# Altium integrated library Texas Instruments Interface USB.IntLib: 91 symbols (part 6 of 12)
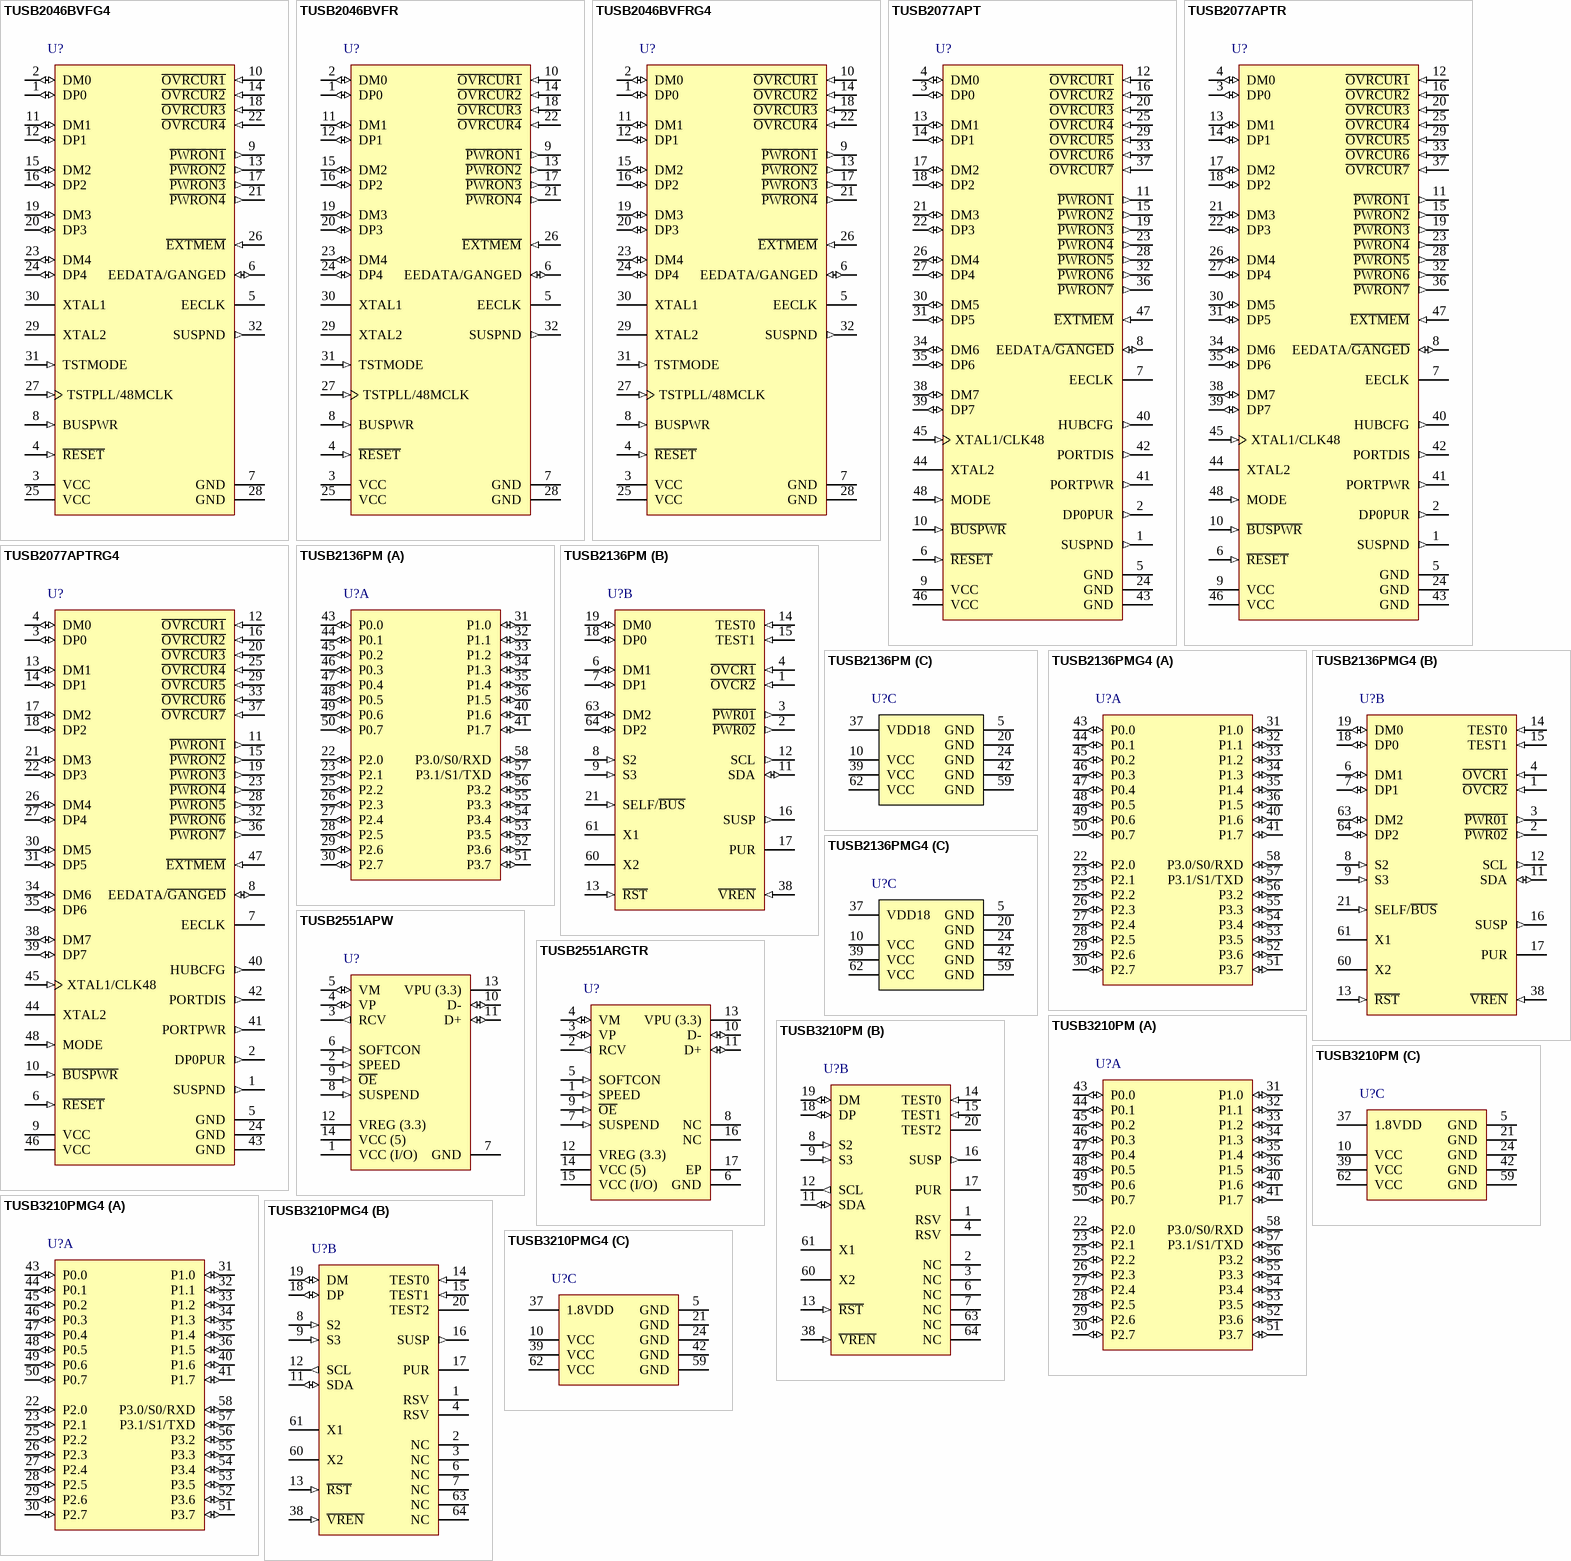
[diagram p13: symbols TUSB2046BVFG4 to TUSB3210PMG4]

## TUSB2077APTRG4
designator U?
7-Port USB Hub with Optional Serial EEPROM Interface, 3.3V, 0 to 70 degC, 48-Pin LQFP (PT), Green (RoHS & no Sb/Br); PartNumber: TUSB2077APTRG4; Manufacturer: Texas Instruments; SubFamily: USB Hub Controller; USB Speed: Full; USB Full Speed: True; Supply Voltage(s)(V): 3.3; DatasheetVersion: SLLS414D; PackageVersion: revC, Nov-1996; PackageReference: PT48; PackageDescription: 48-Pin Plastic Quad Flat Pack, 7 x 7 mm Body, 0.5 mm Pitch; Mounting Technology: Surface Mount; Eco-Plan: Green (RoHS & no Sb/Br); Integrated MCU Architecture: N/A; Code_JEDEC: MS-026; ComponentLink1Description: Datasheet; ComponentLink1URL: http://www.ti.com/general/docs/lit/getliterature.tsp?genericPartNumber=TUSB2077A&fileType=pdf; ComponentLink2Description: Package Specification; ComponentLink2URL: http://www.ti.com/litv/pdf/mtqf003a
footprint PT48_N (Thin QFP, 48-Leads, Body 7x7mm, Pitch 0.5mm, IPC Medium Density)
footprint PT48_L (Thin QFP, 48-Leads, Body 7x7mm, Pitch 0.5mm, IPC High Density)
footprint PT48_M (Thin QFP, 48-Leads, Body 7x7mm, Pitch 0.5mm, IPC Low Density)
pins: 1 SUSPND (out) "Suspend status. SUSPND is an active high output available for external logic power-down operations. During the suspend mode, SUSPND is high. SUSPND is low for normal operation.", 2 DP0PUR (out) "Pullup resistor connection. When a system reset happens (R\E\S\E\T\ being driven to low, but not USB reset) or any logic level change on B\U\S\P\W\R\ terminal, DP0PUR output is inactive (floating) until the internal counter (See Datasheet)", 3 DP0 (io) "Root port USB differential data plus. DP0 paired with DM0 constitutes the upstream USB port.", 4 DM0 (io) "Root port USB differential data minus. DM0 paired with DP0 constitutes the upstream USB port", 5 GND (power) "GND terminals must be tied to ground for proper operation.", 6 ~{RESET} (in) "R\E\S\E\T\ is an active low TTL input with hysteresis and must be asserted at power up. When R\E\S\E\T\ is asserted, all logic is initialized. Generally, a reset with a pulse width between 100 \E\S\E\T\ is an active low TTL (See Datasheet)", 7 EECLK (hiz) "EEPROM serial clock. When E\X\T\M\E\M\ is high, the EEPROM interface is disabled. The EECLK terminal is disabled and must be left floating (unconnected). When E\X\T\M\E\M\ is low, EECLK acts as a 3-state serial clock output (See Datasheet)", 8 EEDATA/~{GANGED} (io) "EEPROM serial data/power-management mode indicator. When E\X\T\M\E\M\ is high, EEDATA/GANGED selects between ganged or per-port power overcurrent detection for the downstream ports. When E\X\T\M\E\M\ is low, (See Datasheet)", 9 VCC (power) "3.3-V supply voltage", 10 ~{BUSPWR} (in) "Power source indicator. B\U\S\P\W\R\ is an active-low input that indicates whether the downstream ports source their power from the USB cable or a local power supply. For the bus-power mode, this terminal must be pulled low, (See Datasheet)", 11 ~{PWRON1} (out) "Power-on/-off control signals. P\W\R\O\N\1\-P\W\R\O\N\7\ are active low, push-pull outputs that enables the external power switch device. Push-pull outputs eliminate the pullup resistors which open-drain outputs require. (See Datasheet)", 12 ~{OVRCUR1} (in) "Overcurrent input. O\V\R\C\U\R\1\-O\V\R\C\U\R\7\ are active low. For per-port overcurrent detection, one overcurrent input is available for each of the seven downstream ports. In the ganged mode, any O\V\R\C\U\R\ input may (See Datasheet)", 13 DM1 (io) "USB differential data minus. DM1-DM7 paired with DP1-DP7 support up to four downstream USB ports.", 14 DP1 (io) "USB differential data plus. DP1-DP7 paired with DM1-DM7 support up to four downstream USB ports.", 15 ~{PWRON2} (out) "Power-on/-off control signals. P\W\R\O\N\1\-P\W\R\O\N\7\ are active low, push-pull outputs that enables the external power switch device. Push-pull outputs eliminate the pullup resistors which open-drain outputs require. (See Datasheet)", 16 ~{OVRCUR2} (in) "Overcurrent input. O\V\R\C\U\R\1\-O\V\R\C\U\R\7\ are active low. For per-port overcurrent detection, one overcurrent input is available for each of the seven downstream ports. In the ganged mode, any O\V\R\C\U\R\ input may (See Datasheet)", 17 DM2 (io) "USB differential data minus. DM1-DM7 paired with DP1-DP7 support up to four downstream USB ports.", 18 DP2 (io) "USB differential data plus. DP1-DP7 paired with DM1-DM7 support up to four downstream USB ports.", 19 ~{PWRON3} (out) "Power-on/-off control signals. P\W\R\O\N\1\-P\W\R\O\N\7\ are active low, push-pull outputs that enables the external power switch device. Push-pull outputs eliminate the pullup resistors which open-drain outputs require. (See Datasheet)", 20 ~{OVRCUR3} (in) "Overcurrent input. O\V\R\C\U\R\1\-O\V\R\C\U\R\7\ are active low. For per-port overcurrent detection, one overcurrent input is available for each of the seven downstream ports. In the ganged mode, any O\V\R\C\U\R\ input may (See Datasheet)", 21 DM3 (io) "USB differential data minus. DM1-DM7 paired with DP1-DP7 support up to four downstream USB ports.", 22 DP3 (io) "USB differential data plus. DP1-DP7 paired with DM1-DM7 support up to four downstream USB ports.", 23 ~{PWRON4} (out) "Power-on/-off control signals. P\W\R\O\N\1\-P\W\R\O\N\7\ are active low, push-pull outputs that enables the external power switch device. Push-pull outputs eliminate the pullup resistors which open-drain outputs require. (See Datasheet)", 24 GND (power) "GND terminals must be tied to ground for proper operation.", 25 ~{OVRCUR4} (in) "Overcurrent input. O\V\R\C\U\R\1\-O\V\R\C\U\R\7\ are active low. For per-port overcurrent detection, one overcurrent input is available for each of the seven downstream ports. In the ganged mode, any O\V\R\C\U\R\ input may (See Datasheet)", 26 DM4 (io) "USB differential data minus. DM1-DM7 paired with DP1-DP7 support up to four downstream USB ports.", 27 DP4 (io) "USB differential data plus. DP1-DP7 paired with DM1-DM7 support up to four downstream USB ports.", 28 ~{PWRON5} (out) "Power-on/-off control signals. P\W\R\O\N\1\-P\W\R\O\N\7\ are active low, push-pull outputs that enables the external power switch device. Push-pull outputs eliminate the pullup resistors which open-drain outputs require. (See Datasheet)", 29 ~{OVRCUR5} (in) "Overcurrent input. O\V\R\C\U\R\1\-O\V\R\C\U\R\7\ are active low. For per-port overcurrent detection, one overcurrent input is available for each of the seven downstream ports. In the ganged mode, any O\V\R\C\U\R\ input may (See Datasheet)", 30 DM5 (io) "USB differential data minus. DM1-DM7 paired with DP1-DP7 support up to four downstream USB ports.", 31 DP5 (io) "USB differential data plus. DP1-DP7 paired with DM1-DM7 support up to four downstream USB ports.", 32 ~{PWRON6} (out) "Power-on/-off control signals. P\W\R\O\N\1\-P\W\R\O\N\7\ are active low, push-pull outputs that enables the external power switch device. Push-pull outputs eliminate the pullup resistors which open-drain outputs require. (See Datasheet)", 33 ~{OVRCUR6} (in) "Overcurrent input. O\V\R\C\U\R\1\-O\V\R\C\U\R\7\ are active low. For per-port overcurrent detection, one overcurrent input is available for each of the seven downstream ports. In the ganged mode, any O\V\R\C\U\R\ input may (See Datasheet)", 34 DM6 (io) "USB differential data minus. DM1-DM7 paired with DP1-DP7 support up to four downstream USB ports.", 35 DP6 (io) "USB differential data plus. DP1-DP7 paired with DM1-DM7 support up to four downstream USB ports.", 36 ~{PWRON7} (out) "Power-on/-off control signals. P\W\R\O\N\1\-P\W\R\O\N\7\ are active low, push-pull outputs that enables the external power switch device. Push-pull outputs eliminate the pullup resistors which open-drain outputs require. (See Datasheet)", 37 ~{OVRCUR7} (in) "Overcurrent input. O\V\R\C\U\R\1\-O\V\R\C\U\R\7\ are active low. For per-port overcurrent detection, one overcurrent input is available for each of the seven downstream ports. In the ganged mode, any O\V\R\C\U\R\ input may (See Datasheet)", 38 DM7 (io) "USB differential data minus. DM1-DM7 paired with DP1-DP7 support up to four downstream USB ports.", 39 DP7 (io) "USB differential data plus. DP1-DP7 paired with DM1-DM7 support up to four downstream USB ports.", 40 HUBCFG (out) "Hub configured. Used to control LED indicator. When the hub is configured, HUBCFG is high, which can be used to turn on a green LED. When the hub is not configured, HUBCFG is low, which can be used to turn on a red LED.", 41 PORTPWR (out) "Any port powered. Used to control LED indicator. When any port is powered on, PORTPWR is high, which can be used to turn on a green LED. When all ports are off, PORTPWR is low, which can be used to turn on a red LED.", 42 PORTDIS (out) "No ports disabled. PORTDIS is used for LED indicator control. When no port is disabled, PORTDIS is high, which can be used to turn on a green LED. When any port is disabled, PORTDIS is low, which can be used to turn on a red (See Datasheet)", 43 GND (power) "GND terminals must be tied to ground for proper operation.", 44 XTAL2 "Crystal 2. XTAL2 is a 6-MHz crystal output. This terminal must be left open when using an oscillator", 45 XTAL1/CLK48 (in) "Crystal 1/48-MHz clock input. When MODE is low, XTAL1/CLK48 is a 6-MHz crystal input with 50% duty cycle. An internal APLL generates the 48-MHz and 12-MHz clocks used internally by the ASIC logic. When MODE is high, (See Datasheet)", 46 VCC (power) "3.3-V supply voltage", 47 ~{EXTMEM} (in) "When E\X\T\M\E\M\ is high, the serial EEPROM interface of the device is disabled. When E\X\T\M\E\M\ is low, terminals 7 and 8 are configured as the clock and data terminals of the serial EEPROM interface, respectively.", 48 MODE (in) "Mode select. When MODE is low, the APLL output clock is selected as the clock source to drive the internal core of the chip and 6-MHz crystal or oscillator can used. When MODE is high, the clock on XTAL1/CLK48 is selected as (See Datasheet)"

## TUSB2136PM
designator U?
USB Compound Hub with General-Purpose 8052 MCU, 3.3V, 0 to 70 degC, 64-Pin LQFP (PM), Green (RoHS & no Sb/Br); PartNumber: TUSB2136PM; Manufacturer: Texas Instruments; SubFamily: USB Hub Controller; USB Speed: Full; USB Full Speed: True; Integrated MCU Architecture: 8052; Supply Voltage(s)(V): 3.3; DatasheetVersion: SLLS442E; PackageVersion: Dec-1996; PackageReference: PM64; PackageDescription: 64-Pin Thin Quad Flat Pack 0.5 mm Pitch; Mounting Technology: Surface Mount; Eco-Plan: Green (RoHS & no Sb/Br); Code_JEDEC: MS-026; ComponentLink1Description: Datasheet; ComponentLink1URL: http://www.ti.com/general/docs/lit/getliterature.tsp?genericPartNumber=TUSB2136&fileType=pdf; ComponentLink2Description: Package Specification; ComponentLink2URL: http://www.ti.com/lit/ml/mtqf008a/mtqf008a.pdf
footprint PM64_N (Thin QFP, 64-Leads, Body 10x10mm, Pitch 0.5mm, IPC Medium Density)
footprint PM64_L (Thin QFP, 64-Leads, Body 10x10mm, Pitch 0.5mm, IPC High Density)
footprint PM64_M (Thin QFP, 64-Leads, Body 10x10mm, Pitch 0.5mm, IPC Low Density)
part A pins: 22 P2.0 (io) "General-purpose I/O port 2 bits 0-7, Schmitt-trigger input, 100-uA active pullup, open-drain output", 23 P2.1 (io) "General-purpose I/O port 2 bits 0-7, Schmitt-trigger input, 100-uA active pullup, open-drain output", 25 P2.2 (io) "General-purpose I/O port 2 bits 0-7, Schmitt-trigger input, 100-uA active pullup, open-drain output", 26 P2.3 (io) "General-purpose I/O port 2 bits 0-7, Schmitt-trigger input, 100-uA active pullup, open-drain output", 27 P2.4 (io) "General-purpose I/O port 2 bits 0-7, Schmitt-trigger input, 100-uA active pullup, open-drain output", 28 P2.5 (io) "General-purpose I/O port 2 bits 0-7, Schmitt-trigger input, 100-uA active pullup, open-drain output", 29 P2.6 (io) "General-purpose I/O port 2 bits 0-7, Schmitt-trigger input, 100-uA active pullup, open-drain output", 30 P2.7 (io) "General-purpose I/O port 2 bits 0-7, Schmitt-trigger input, 100-uA active pullup, open-drain output", 31 P1.0 (io) "General-purpose I/O port 1 bits 0-7, Schmitt-trigger input, 100-uA active pullup, open-drain output", 32 P1.1 (io) "General-purpose I/O port 1 bits 0-7, Schmitt-trigger input, 100-uA active pullup, open-drain output", 33 P1.2 (io) "General-purpose I/O port 1 bits 0-7, Schmitt-trigger input, 100-uA active pullup, open-drain output", 34 P1.3 (io) "General-purpose I/O port 1 bits 0-7, Schmitt-trigger input, 100-uA active pullup, open-drain output", 35 P1.4 (io) "General-purpose I/O port 1 bits 0-7, Schmitt-trigger input, 100-uA active pullup, open-drain output", 36 P1.5 (io) "General-purpose I/O port 1 bits 0-7, Schmitt-trigger input, 100-uA active pullup, open-drain output", 40 P1.6 (io) "General-purpose I/O port 1 bits 0-7, Schmitt-trigger input, 100-uA active pullup, open-drain output", 41 P1.7 (io) "General-purpose I/O port 1 bits 0-7, Schmitt-trigger input, 100-uA active pullup, open-drain output", 43 P0.0 (io) "General-purpose I/O port 0 bits 0-7, Schmitt-trigger input, 100-uA active pullup, open-drain output", 44 P0.1 (io) "General-purpose I/O port 0 bits 0-7, Schmitt-trigger input, 100-uA active pullup, open-drain output", 45 P0.2 (io) "General-purpose I/O port 0 bits 0-7, Schmitt-trigger input, 100-uA active pullup, open-drain output", 46 P0.3 (io) "General-purpose I/O port 0 bits 0-7, Schmitt-trigger input, 100-uA active pullup, open-drain output", 47 P0.4 (io) "General-purpose I/O port 0 bits 0-7, Schmitt-trigger input, 100-uA active pullup, open-drain output", 48 P0.5 (io) "General-purpose I/O port 0 bits 0-7, Schmitt-trigger input, 100-uA active pullup, open-drain output", 49 P0.6 (io) "General-purpose I/O port 0 bits 0-7, Schmitt-trigger input, 100-uA active pullup, open-drain output", 50 P0.7 (io) "General-purpose I/O port 0 bits 0-7, Schmitt-trigger input, 100-uA active pullup, open-drain output", 51 P3.7 (io) "General-purpose I/O port 3 bit 4, Schmitt-trigger input, 100-uA active pullup, open-drain output", 52 P3.6 (io) "General-purpose I/O port 3 bit 4, Schmitt-trigger input, 100-uA active pullup, open-drain output", 53 P3.5 (io) "General-purpose I/O port 3 bit 4, Schmitt-trigger input, 100-uA active pullup, open-drain output", 54 P3.4 (io) "General-purpose I/O port 3 bit 4, Schmitt-trigger input, 100-uA active pullup, open-drain output", 55 P3.3 (io) "General-purpose I/O port 3 bit 3, Schmitt-trigger input, 100-uA active pullup, open-drain output may support I\N\T\1\  input, depending on configuration (see Figure 2-5).", 56 P3.2 (io) "General-purpose I/O port 3 bit 2, Schmitt-trigger input, 100-uA active pullup, open-drain output; I\N\T\0\ only used internally (see Section 2.9.4)", 57 P3.1/S1/TXD (io) "P3.1: General-purpose I/O port 3 bit 1, Schmitt-trigger input, 100-uA active pullup, open-drain output. S1: See Section 2.6.12  TXD: Can be used as a UART interface.", 58 P3.0/S0/RXD (io) "P3.0: General-purpose I/O port 3 bit 0, Schmitt-trigger input, 100-uA active pullup, open-drain output. S0: See Section 2.6.12. RXD: Can be used as a UART interface."
part B pins: 1 ~{OVCR2} (in) "Port 2: Overcorrect indicator; Schmitt-trigger input, 100-uA active pullup", 2 ~{PWR02} (out) "Port 2: power on/off control signal; push-pull CMOS output (+/-8 mA)", 3 ~{PWR01} (out) "Port 1: power on/off control signal; push-pull CMOS output (+/-8 mA)", 4 ~{OVCR1} (in) "Port 1: Overcorrect indicator; Schmitt-trigger input, 100-uA active pullup", 6 DM1 (io) "Differential data-minus port 1: downstream", 7 DP1 (io) "Differential data-plus port 1: downstream", 8 S2 (in) "General-purpose input; can be used for VID/PID selection under firmware control. This input has no internal pullup, so it must be driven/pulled either low or high and connot be left unconnected.", 9 S3 (in) "General-purpose input. This input has no internal pullup, so it must be driven/pulled either low or high and connot be left unconnected.", 11 SDA (io) "Serial data I2C; open-drain output", 12 SCL (out) "Serial clock I2C; push-pull output", 13 ~{RST} (in) "Controller master reset signal, Schmitt-trigger input, 100-uA active pullup", 14 TEST0 (in) "Test input 0, Schmitt-trigger input, 100-uA active pullup", 15 TEST1 (in) "Test input 1, Schmitt-trigger input, 100-uA active pullup", 16 SUSP (out) "Suspend status signal: suspended (HIGH); unsuspended (LOW)", 17 PUR (hiz) "Pullup resistor connection pin (3-state); push-pull CMOS output (+/-8 mA)", 18 DP0 (io) "Differential data-plus USB port 0: upstream", 19 DM0 (io) "Differential data-minus USB port 0: upstream", 21 SELF/~{BUS} (in) "USB power MODE select: self powered (HIGH), bus powered (LOW)", 38 ~{VREN} (in) "Voltage regulator enable: enable active LOW; disable active HIGH", 60 X2 "12-MHz crystal output", 61 X1 "12-MHz crystal input", 63 DM2 (io) "Differential data-minus port 2: downstream", 64 DP2 (io) "Differential data-plus port 2: downstream"
part C pins: 5 GND (power) "Power supply ground", 10 VCC (power) "Power supply input, 3.3 V typical", 20 GND (power) "Power supply ground", 24 GND (power) "Power supply ground", 37 VDD18 (power) "1.8 V. When V\R\E\N\ is low, 1.8 V must be applied to provide current for the core during suspend.", 39 VCC (power) "Power supply input, 3.3 V typical", 42 GND (power) "Power supply ground", 59 GND (power) "Power supply ground", 62 VCC (power) "Power supply input, 3.3 V typical"

## TUSB2136PMG4
designator U?
USB Compound Hub with General-Purpose 8052 MCU, 3.3V, 0 to 70 degC, 64-Pin LQFP (PM), Green (RoHS & no Sb/Br); PartNumber: TUSB2136PMG4; Manufacturer: Texas Instruments; SubFamily: USB Hub Controller; USB Speed: Full; USB Full Speed: True; Integrated MCU Architecture: 8052; Supply Voltage(s)(V): 3.3; DatasheetVersion: SLLS442E; PackageVersion: Dec-1996; PackageReference: PM64; PackageDescription: 64-Pin Thin Quad Flat Pack 0.5 mm Pitch; Mounting Technology: Surface Mount; Eco-Plan: Green (RoHS & no Sb/Br); Code_JEDEC: MS-026; ComponentLink1Description: Datasheet; ComponentLink1URL: http://www.ti.com/general/docs/lit/getliterature.tsp?genericPartNumber=TUSB2136&fileType=pdf; ComponentLink2Description: Package Specification; ComponentLink2URL: http://www.ti.com/lit/ml/mtqf008a/mtqf008a.pdf
footprint PM64_N (Thin QFP, 64-Leads, Body 10x10mm, Pitch 0.5mm, IPC Medium Density)
footprint PM64_L (Thin QFP, 64-Leads, Body 10x10mm, Pitch 0.5mm, IPC High Density)
footprint PM64_M (Thin QFP, 64-Leads, Body 10x10mm, Pitch 0.5mm, IPC Low Density)
part A pins: 22 P2.0 (io) "General-purpose I/O port 2 bits 0-7, Schmitt-trigger input, 100-uA active pullup, open-drain output", 23 P2.1 (io) "General-purpose I/O port 2 bits 0-7, Schmitt-trigger input, 100-uA active pullup, open-drain output", 25 P2.2 (io) "General-purpose I/O port 2 bits 0-7, Schmitt-trigger input, 100-uA active pullup, open-drain output", 26 P2.3 (io) "General-purpose I/O port 2 bits 0-7, Schmitt-trigger input, 100-uA active pullup, open-drain output", 27 P2.4 (io) "General-purpose I/O port 2 bits 0-7, Schmitt-trigger input, 100-uA active pullup, open-drain output", 28 P2.5 (io) "General-purpose I/O port 2 bits 0-7, Schmitt-trigger input, 100-uA active pullup, open-drain output", 29 P2.6 (io) "General-purpose I/O port 2 bits 0-7, Schmitt-trigger input, 100-uA active pullup, open-drain output", 30 P2.7 (io) "General-purpose I/O port 2 bits 0-7, Schmitt-trigger input, 100-uA active pullup, open-drain output", 31 P1.0 (io) "General-purpose I/O port 1 bits 0-7, Schmitt-trigger input, 100-uA active pullup, open-drain output", 32 P1.1 (io) "General-purpose I/O port 1 bits 0-7, Schmitt-trigger input, 100-uA active pullup, open-drain output", 33 P1.2 (io) "General-purpose I/O port 1 bits 0-7, Schmitt-trigger input, 100-uA active pullup, open-drain output", 34 P1.3 (io) "General-purpose I/O port 1 bits 0-7, Schmitt-trigger input, 100-uA active pullup, open-drain output", 35 P1.4 (io) "General-purpose I/O port 1 bits 0-7, Schmitt-trigger input, 100-uA active pullup, open-drain output", 36 P1.5 (io) "General-purpose I/O port 1 bits 0-7, Schmitt-trigger input, 100-uA active pullup, open-drain output", 40 P1.6 (io) "General-purpose I/O port 1 bits 0-7, Schmitt-trigger input, 100-uA active pullup, open-drain output", 41 P1.7 (io) "General-purpose I/O port 1 bits 0-7, Schmitt-trigger input, 100-uA active pullup, open-drain output", 43 P0.0 (io) "General-purpose I/O port 0 bits 0-7, Schmitt-trigger input, 100-uA active pullup, open-drain output", 44 P0.1 (io) "General-purpose I/O port 0 bits 0-7, Schmitt-trigger input, 100-uA active pullup, open-drain output", 45 P0.2 (io) "General-purpose I/O port 0 bits 0-7, Schmitt-trigger input, 100-uA active pullup, open-drain output", 46 P0.3 (io) "General-purpose I/O port 0 bits 0-7, Schmitt-trigger input, 100-uA active pullup, open-drain output", 47 P0.4 (io) "General-purpose I/O port 0 bits 0-7, Schmitt-trigger input, 100-uA active pullup, open-drain output", 48 P0.5 (io) "General-purpose I/O port 0 bits 0-7, Schmitt-trigger input, 100-uA active pullup, open-drain output", 49 P0.6 (io) "General-purpose I/O port 0 bits 0-7, Schmitt-trigger input, 100-uA active pullup, open-drain output", 50 P0.7 (io) "General-purpose I/O port 0 bits 0-7, Schmitt-trigger input, 100-uA active pullup, open-drain output", 51 P3.7 (io) "General-purpose I/O port 3 bit 4, Schmitt-trigger input, 100-uA active pullup, open-drain output", 52 P3.6 (io) "General-purpose I/O port 3 bit 4, Schmitt-trigger input, 100-uA active pullup, open-drain output", 53 P3.5 (io) "General-purpose I/O port 3 bit 4, Schmitt-trigger input, 100-uA active pullup, open-drain output", 54 P3.4 (io) "General-purpose I/O port 3 bit 4, Schmitt-trigger input, 100-uA active pullup, open-drain output", 55 P3.3 (io) "General-purpose I/O port 3 bit 3, Schmitt-trigger input, 100-uA active pullup, open-drain output may support I\N\T\1\  input, depending on configuration (see Figure 2-5).", 56 P3.2 (io) "General-purpose I/O port 3 bit 2, Schmitt-trigger input, 100-uA active pullup, open-drain output; I\N\T\0\ only used internally (see Section 2.9.4)", 57 P3.1/S1/TXD (io) "P3.1: General-purpose I/O port 3 bit 1, Schmitt-trigger input, 100-uA active pullup, open-drain output. S1: See Section 2.6.12  TXD: Can be used as a UART interface.", 58 P3.0/S0/RXD (io) "P3.0: General-purpose I/O port 3 bit 0, Schmitt-trigger input, 100-uA active pullup, open-drain output. S0: See Section 2.6.12. RXD: Can be used as a UART interface."
part B pins: 1 ~{OVCR2} (in) "Port 2: Overcorrect indicator; Schmitt-trigger input, 100-uA active pullup", 2 ~{PWR02} (out) "Port 2: power on/off control signal; push-pull CMOS output (+/-8 mA)", 3 ~{PWR01} (out) "Port 1: power on/off control signal; push-pull CMOS output (+/-8 mA)", 4 ~{OVCR1} (in) "Port 1: Overcorrect indicator; Schmitt-trigger input, 100-uA active pullup", 6 DM1 (io) "Differential data-minus port 1: downstream", 7 DP1 (io) "Differential data-plus port 1: downstream", 8 S2 (in) "General-purpose input; can be used for VID/PID selection under firmware control. This input has no internal pullup, so it must be driven/pulled either low or high and connot be left unconnected.", 9 S3 (in) "General-purpose input. This input has no internal pullup, so it must be driven/pulled either low or high and connot be left unconnected.", 11 SDA (io) "Serial data I2C; open-drain output", 12 SCL (out) "Serial clock I2C; push-pull output", 13 ~{RST} (in) "Controller master reset signal, Schmitt-trigger input, 100-uA active pullup", 14 TEST0 (in) "Test input 0, Schmitt-trigger input, 100-uA active pullup", 15 TEST1 (in) "Test input 1, Schmitt-trigger input, 100-uA active pullup", 16 SUSP (out) "Suspend status signal: suspended (HIGH); unsuspended (LOW)", 17 PUR (hiz) "Pullup resistor connection pin (3-state); push-pull CMOS output (+/-8 mA)", 18 DP0 (io) "Differential data-plus USB port 0: upstream", 19 DM0 (io) "Differential data-minus USB port 0: upstream", 21 SELF/~{BUS} (in) "USB power MODE select: self powered (HIGH), bus powered (LOW)", 38 ~{VREN} (in) "Voltage regulator enable: enable active LOW; disable active HIGH", 60 X2 "12-MHz crystal output", 61 X1 "12-MHz crystal input", 63 DM2 (io) "Differential data-minus port 2: downstream", 64 DP2 (io) "Differential data-plus port 2: downstream"
part C pins: 5 GND (power) "Power supply ground", 10 VCC (power) "Power supply input, 3.3 V typical", 20 GND (power) "Power supply ground", 24 GND (power) "Power supply ground", 37 VDD18 (power) "1.8 V. When V\R\E\N\ is low, 1.8 V must be applied to provide current for the core during suspend.", 39 VCC (power) "Power supply input, 3.3 V typical", 42 GND (power) "Power supply ground", 59 GND (power) "Power supply ground", 62 VCC (power) "Power supply input, 3.3 V typical"

## TUSB2551APW
designator U?
Advanced USB Transceiver, Full Speed, Single, +/-15 KV, -40 to 85 degC, 14-Pin TSSOP (PW); PartNumber: TUSB2551APW; Manufacturer: Texas Instruments; DatasheetVersion: SCES790; PackageVersion: revG, Feb-2011; PackageReference: PW14; PackageDescription: 14-Pin Thin Small Outline Package 0.65 mm Pitch; Mounting Technology: Surface Mount; SubFamily: USB Transceiver; ESD HBM(kV): +/-15; USB Speed: Full; Code_JEDEC: MO-153; ComponentLink1Description: Datasheet; ComponentLink1URL: http://www.ti.com/general/docs/lit/getliterature.tsp?genericPartNumber=TUSB2551A&fileType=pdf; ComponentLink2Description: Package Specification; ComponentLink2URL: http://www.ti.com/lit/ml/mpds360/mpds360.pdf
footprint PW14_N (TSOP, 14-Leads, Body 5x4.4mm, Pitch 0.65mm, IPC Medium Density)
footprint PW14_L (TSOP, 14-Leads, Body 5x4.4mm, Pitch 0.65mm, IPC High Density)
footprint PW14_M (TSOP, 14-Leads, Body 5x4.4mm, Pitch 0.65mm, IPC Low Density)
pins: 1 VCC (I/O) (power) "System terface supply voltage. Used to provide reference supply voltage for system I/O interface signaling", 2 SPEED (in) "Speed.Edge-rate contrl:Alogic HIGH operates at edge rates for full-speed operation .A logic LOW operates at edge rates for low-speed operation", 3 RCV (out) "Receive data. Output for USB differential data", 4 VP (io) "if O\E\=1,VP=Receiver output(+);if O\E\=0,VP=Driver input(+)", 5 VM (io) "if O\E\=1,VM=Receiver output(-);if O\E\=0,VM=Driver input(-)", 6 SOFTCON (in) "Soft connect. Controls state of VPU(3.3). See VPU(3.3) pin description for details.", 7 GND (power) "Ground reference", 8 SUSPEND (in) "Suspend. Active high. Turns off internal circuits to reduce supply current.", 9 ~{OE} (in) "Output enable.Active low. Enables the transceiver to transmit data onto the bus. When inactive, the transceiver is in the receive mode.", 10 D- (io) "Differential data lines conforming to the USB standard", 11 D+ (io) "Differential data lines conforming to the USB standard", 12 VREG (3.3) (power) "3.3-V reference supply. Requires a minimum 0.1-uF decoupling capacitor for stability. A 1-uF capacitor is recommended.", 13 VPU (3.3) (power) "Pullup supply voltage.Used to nonnect 1.5-kohm pullup speed detect resistor.if SOFTCON=1, VPU_33 is high impedance.If SOFTCON=0, VPU_33=3.3V", 14 VCC (5) (power) "USB bus supply voltage. Used to power USB transceiver and internal circuitry."

## TUSB2551ARGTR
designator U?
Advanced USB Transceiver, Full Speed, Single, +/-15V, -40 to 85 degC, 16-Pin QFN (RGT), Green (RoHS & no Sb/Br); PartNumber: TUSB2551ARGTR; Manufacturer: Texas Instruments; ESD HBM(kV): +/-15; DatasheetVersion: SCES790; PackageVersion: revH, Oct-2011; PackageReference: RGT16-1600X1600TP; PackageDescription: 16-Pin Plastic Quad Flatpack No-Lead, 3 x 3 mm Body, 0.5 mm Pitch; Mounting Technology: Surface Mount; SubFamily: USB Transceiver; USB Speed: Full; Code_JEDEC: MO-220; ComponentLink1Description: Datasheet; ComponentLink1URL: http://www.ti.com/general/docs/lit/getliterature.tsp?genericPartNumber=TUSB2551A&fileType=pdf; ComponentLink2Description: Package Specification; ComponentLink2URL: http://www.ti.com/litv/pdf/mpqf119g
footprint RGT16-1600X1600TP (QFN, 16-Leads, Body 3x3mm, Pitch 0.5mm, Thermal Pad 1.6x1.6mm, TI Recommended)
pins: 1 SPEED (in) "Speed.Edge-rate control:A logic HIGH operates at edge rates for full-speed operation. A logic LOW operates at edge rates for low-speed operation.", 2 RCV (out) "Receive data. Output for USB differential data.", 3 VP (io) "If O\E\=1,VP=Receiver output(+)   If O\E\=0,VP=Driver input(+)", 4 VM (io) "If O\E\=1,VM=Receiver output(-)   If O\E\=0,VM=Driver input(-)", 5 SOFTCON (in) "Soft connect. Controls state of VPU(3.3). See VPU(3.3) pin description for details.", 6 GND (power) "Ground reference", 7 SUSPEND (in) "Suspend. Active high. Turns off internal circuits to reduce supply current.", 8 NC "No internal connection", 9 ~{OE} (in) "Output enable.Active low.Enables the transceiver to transmit data onto the bus. When inactive, the transceiver is in the mode.", 10 D- (io) "Differential data lines conforming to the USB standard", 11 D+ (io) "Differential data lines conforming to the USB standard", 12 VREG (3.3) (power) "3.3-V reference supply. Requires a minimum 0.1-mF decoupling capacitor for stability. A 1-mF capacitor is recommended", 13 VPU (3.3) (power) "Pullup supply voltage.Used to connect 1.5-kohm pullup speed detect resistor. If SOFTCON=1,VPU(3.3) is high impedance.If SOFTCON=0,VPU(3.3)=3.3V", 14 VCC (5) (power) "USB bus supply voltage. Used to power USB transceiver and internal circuitry.", 15 VCC (I/O) (power) "System interface supply voltage. Used to provide reference supply voltage for system I/O interface signaling.", 16 NC "No internal connection", 17 EP (power) "Exposed Thermal Pad"

## TUSB3210PM
designator U?
4 MIPs, Universal Serial Bus General-Purpose Device Controller, 8 KBytes, 8052, 3.3V, 0 to 70 degC, 64-Pin LQFP (PM), Green (RoHS & no Sb/Br); PartNumber: TUSB3210PM; Manufacturer: Texas Instruments; SubFamily: USB Peripheral; MCU Speed(Max)(MIPs): 4; Number of Endpoints IN: 3; Supply Voltage(s)(V): 3.3; Application Interface: GPIO; GPIO Pins(#): 32; USB Speed: Full; Integrated MCU Architecture: 8052; Bulk Transfer: True; MCU Code Space(KBytes): 8; DatasheetVersion: SLLS466F; PackageVersion: Dec-1996; PackageReference: PM64; PackageDescription: 64-Pin Thin Quad Flat Pack 0.5 mm Pitch; Mounting Technology: Surface Mount; Eco-Plan: Green (RoHS & no Sb/Br); Number of Endpoints OUT: 3; Control Transfer: True; Interrupt Transfer: True; Remote Wakeup: True; Code_JEDEC: MS-026; ComponentLink1Description: Datasheet; ComponentLink1URL: http://www.ti.com/general/docs/lit/getliterature.tsp?genericPartNumber=TUSB3210&fileType=pdf; ComponentLink2Description: Package Specification; ComponentLink2URL: http://www.ti.com/lit/ml/mtqf008a/mtqf008a.pdf
footprint PM64_N (Thin QFP, 64-Leads, Body 10x10mm, Pitch 0.5mm, IPC Medium Density)
footprint PM64_L (Thin QFP, 64-Leads, Body 10x10mm, Pitch 0.5mm, IPC High Density)
footprint PM64_M (Thin QFP, 64-Leads, Body 10x10mm, Pitch 0.5mm, IPC Low Density)
part A pins: 22 P2.0 (io) "General-purpose I/O port 2 bits 0?, Schmitt-trigger input, 100-uA active pullup, open-drain output(2)", 23 P2.1 (io) "General-purpose I/O port 2 bits 0?, Schmitt-trigger input, 100-uA active pullup, open-drain output(2)", 25 P2.2 (io) "General-purpose I/O port 2 bits 0?, Schmitt-trigger input, 100-uA active pullup, open-drain output(2)", 26 P2.3 (io) "General-purpose I/O port 2 bits 0?, Schmitt-trigger input, 100-uA active pullup, open-drain output(2)", 27 P2.4 (io) "General-purpose I/O port 2 bits 0?, Schmitt-trigger input, 100-uA active pullup, open-drain output(2)", 28 P2.5 (io) "General-purpose I/O port 2 bits 0?, Schmitt-trigger input, 100-uA active pullup, open-drain output(2)", 29 P2.6 (io) "General-purpose I/O port 2 bits 0?, Schmitt-trigger input, 100-uA active pullup, open-drain output(2)", 30 P2.7 (io) "General-purpose I/O port 2 bits 0?, Schmitt-trigger input, 100-uA active pullup, open-drain output(2)", 31 P1.0 (io) "General-purpose I/O port 1 bits 0?, Schmitt-trigger input, 100-uA active pullup, open-drain output(2)", 32 P1.1 (io) "General-purpose I/O port 1 bits 0?, Schmitt-trigger input, 100-uA active pullup, open-drain output(2)", 33 P1.2 (io) "General-purpose I/O port 1 bits 0?, Schmitt-trigger input, 100-uA active pullup, open-drain output(2)", 34 P1.3 (io) "General-purpose I/O port 1 bits 0?, Schmitt-trigger input, 100-uA active pullup, open-drain output(2)", 35 P1.4 (io) "General-purpose I/O port 1 bits 0?, Schmitt-trigger input, 100-uA active pullup, open-drain output(2)", 36 P1.5 (io) "General-purpose I/O port 1 bits 0?, Schmitt-trigger input, 100-uA active pullup, open-drain output(2)", 40 P1.6 (io) "General-purpose I/O port 1 bits 0?, Schmitt-trigger input, 100-uA active pullup, open-drain output(2)", 41 P1.7 (io) "General-purpose I/O port 1 bits 0?, Schmitt-trigger input, 100-uA active pullup, open-drain output(2)", 43 P0.0 (io) "General-purpose I/O port 0 bits 0?, Schmitt-trigger input, 100-uA active pullup, open-drain output(2)", 44 P0.1 (io) "General-purpose I/O port 0 bits 0?, Schmitt-trigger input, 100-uA active pullup, open-drain output(2)", 45 P0.2 (io) "General-purpose I/O port 0 bits 0?, Schmitt-trigger input, 100-uA active pullup, open-drain output(2)", 46 P0.3 (io) "General-purpose I/O port 0 bits 0?, Schmitt-trigger input, 100-uA active pullup, open-drain output(2)", 47 P0.4 (io) "General-purpose I/O port 0 bits 0?, Schmitt-trigger input, 100-uA active pullup, open-drain output(2)", 48 P0.5 (io) "General-purpose I/O port 0 bits 0?, Schmitt-trigger input, 100-uA active pullup, open-drain output(2)", 49 P0.6 (io) "General-purpose I/O port 0 bits 0?, Schmitt-trigger input, 100-uA active pullup, open-drain output(2)", 50 P0.7 (io) "General-purpose I/O port 0 bits 0?, Schmitt-trigger input, 100-uA active pullup, open-drain output(2)", 51 P3.7 (io) "General-purpose I/O port 3 bits 4?, Schmitt-trigger input, 100-uA active pullup, open-drain output(2)", 52 P3.6 (io) "General-purpose I/O port 3 bits 4?, Schmitt-trigger input, 100-uA active pullup, open-drain output(2)", 53 P3.5 (io) "General-purpose I/O port 0 bits 0?, Schmitt-trigger input, 100-uA active pullup, open-drain output(2)", 54 P3.4 (io) "General-purpose I/O port 0 bits 0?, Schmitt-trigger input, 100-uA active pullup, open-drain output(2)", 55 P3.3 (io) "General-purpose I/O port 3 bit 3, Schmitt-trigger input, 100-uA active pullup, open-drain output may support I\N\T\1\ input, depending on configuration (see Figure 2-5)", 56 P3.2 (io) "General-purpose I/O port 3 bit 2, Schmitt-trigger input, 100-uA active pullup, open-drain output(2); I\N\T\0\ only used internally (see Section 2.9.4)", 57 P3.1/S1/TXD (io) "P3.1: General-purpose I/O port 3 bit 1, Schmitt-trigger input, 100-uA active pullup, open-drain output S1: See Section 2.6.5. TXD: Can be used as a UART interface", 58 P3.0/S0/RXD (io) "P3.0: General-purpose I/O port 3 bit 0, Schmitt-trigger input, 100-uA active pullup, open-drain output S0:See Section 2.6.5 RXD: Can be used as a UART interface"
part B pins: 1 RSV "Reserved (Do not connect these pins.)", 2 NC "No connection", 3 NC "No connection", 4 RSV "Reserved (Do not connect these pins.)", 6 NC "No connection", 7 NC "No connection", 8 S2 (in) "General-purpose input, can be used for VID/PID selection under firmware control. This input has no internal pullup; therefore, it must be driven/pulled either low or high and cannot be left unconnected.", 9 S3 (in) "General-purpose input. This input has no internal pullup; therefore, it must be driven/pulled either low or high and cannot be left unconnected.", 11 SDA (io) "Serial data I2C; open-drain output", 12 SCL (out) "Serial clock I2C;push-pull output", 13 ~{RST} (in) "Controller master reset signal, Schmitt-trigger input, 100-uA active pullup", 14 TEST0 (in) "Test input0, Schmitt-trigger input, 100-uA active pullup", 15 TEST1 (in) "Test input1, Schmitt-trigger input, 100-uA active pullup", 16 SUSP (out) "Suspend status signal: suspended (HIGH); unsuspended (LOW)", 17 PUR (hiz) "Pullup resistor connection pin (3-state) push-pull CMOS output (+/-4 mA)", 18 DP (io) "Differential data-plus USB", 19 DM (io) "Differential data-minus USB", 20 TEST2 "Test input2, Schmitt-trigger input, 100-uA active pullup. This pin is reserved for testing purposes and should be left unconnected.", 38 ~{VREN} (in) "Voltage regulator enable: enable active-LOW; disable active-HIGH", 60 X2 "12-MHz crystal output", 61 X1 "12-MHz crystal input", 63 NC "No connection", 64 NC "No connection"
part C pins: 5 GND (power) "Power supply ground", 10 VCC (power) "Power supply input, 3.3 V typical", 21 GND (power) "Power supply ground", 24 GND (power) "Power supply ground", 37 1.8VDD (power) "1.8 V. When V\R\E\N\ is high, 1.8 V must be applied externally to provide current for the core during suspend.", 39 VCC (power) "Power supply input, 3.3 V typical", 42 GND (power) "Power supply ground", 59 GND (power) "Power supply ground", 62 VCC (power) "Power supply input, 3.3 V typical"

## TUSB3210PMG4
designator U?
4 MIPs, Universal Serial Bus General-Purpose Device Controller, 8 KBytes, 8052, 3.3V, 0 to 70 degC, 64-Pin LQFP (PM), Green (RoHS & no Sb/Br); PartNumber: TUSB3210PMG4; Manufacturer: Texas Instruments; SubFamily: USB Peripheral; MCU Speed(Max)(MIPs): 4; Number of Endpoints IN: 3; Supply Voltage(s)(V): 3.3; Application Interface: GPIO; GPIO Pins(#): 32; USB Speed: Full; Integrated MCU Architecture: 8052; Bulk Transfer: True; MCU Code Space(KBytes): 8; DatasheetVersion: SLLS466F; PackageVersion: Dec-1996; PackageReference: PM64; PackageDescription: 64-Pin Thin Quad Flat Pack 0.5 mm Pitch; Mounting Technology: Surface Mount; Eco-Plan: Green (RoHS & no Sb/Br); Number of Endpoints OUT: 3; Control Transfer: True; Interrupt Transfer: True; Remote Wakeup: True; Code_JEDEC: MS-026; ComponentLink1Description: Datasheet; ComponentLink1URL: http://www.ti.com/general/docs/lit/getliterature.tsp?genericPartNumber=TUSB3210&fileType=pdf; ComponentLink2Description: Package Specification; ComponentLink2URL: http://www.ti.com/lit/ml/mtqf008a/mtqf008a.pdf
footprint PM64_N (Thin QFP, 64-Leads, Body 10x10mm, Pitch 0.5mm, IPC Medium Density)
footprint PM64_L (Thin QFP, 64-Leads, Body 10x10mm, Pitch 0.5mm, IPC High Density)
footprint PM64_M (Thin QFP, 64-Leads, Body 10x10mm, Pitch 0.5mm, IPC Low Density)
part A pins: 22 P2.0 (io) "General-purpose I/O port 2 bits 0?, Schmitt-trigger input, 100-uA active pullup, open-drain output(2)", 23 P2.1 (io) "General-purpose I/O port 2 bits 0?, Schmitt-trigger input, 100-uA active pullup, open-drain output(2)", 25 P2.2 (io) "General-purpose I/O port 2 bits 0?, Schmitt-trigger input, 100-uA active pullup, open-drain output(2)", 26 P2.3 (io) "General-purpose I/O port 2 bits 0?, Schmitt-trigger input, 100-uA active pullup, open-drain output(2)", 27 P2.4 (io) "General-purpose I/O port 2 bits 0?, Schmitt-trigger input, 100-uA active pullup, open-drain output(2)", 28 P2.5 (io) "General-purpose I/O port 2 bits 0?, Schmitt-trigger input, 100-uA active pullup, open-drain output(2)", 29 P2.6 (io) "General-purpose I/O port 2 bits 0?, Schmitt-trigger input, 100-uA active pullup, open-drain output(2)", 30 P2.7 (io) "General-purpose I/O port 2 bits 0?, Schmitt-trigger input, 100-uA active pullup, open-drain output(2)", 31 P1.0 (io) "General-purpose I/O port 1 bits 0?, Schmitt-trigger input, 100-uA active pullup, open-drain output(2)", 32 P1.1 (io) "General-purpose I/O port 1 bits 0?, Schmitt-trigger input, 100-uA active pullup, open-drain output(2)", 33 P1.2 (io) "General-purpose I/O port 1 bits 0?, Schmitt-trigger input, 100-uA active pullup, open-drain output(2)", 34 P1.3 (io) "General-purpose I/O port 1 bits 0?, Schmitt-trigger input, 100-uA active pullup, open-drain output(2)", 35 P1.4 (io) "General-purpose I/O port 1 bits 0?, Schmitt-trigger input, 100-uA active pullup, open-drain output(2)", 36 P1.5 (io) "General-purpose I/O port 1 bits 0?, Schmitt-trigger input, 100-uA active pullup, open-drain output(2)", 40 P1.6 (io) "General-purpose I/O port 1 bits 0?, Schmitt-trigger input, 100-uA active pullup, open-drain output(2)", 41 P1.7 (io) "General-purpose I/O port 1 bits 0?, Schmitt-trigger input, 100-uA active pullup, open-drain output(2)", 43 P0.0 (io) "General-purpose I/O port 0 bits 0?, Schmitt-trigger input, 100-uA active pullup, open-drain output(2)", 44 P0.1 (io) "General-purpose I/O port 0 bits 0?, Schmitt-trigger input, 100-uA active pullup, open-drain output(2)", 45 P0.2 (io) "General-purpose I/O port 0 bits 0?, Schmitt-trigger input, 100-uA active pullup, open-drain output(2)", 46 P0.3 (io) "General-purpose I/O port 0 bits 0?, Schmitt-trigger input, 100-uA active pullup, open-drain output(2)", 47 P0.4 (io) "General-purpose I/O port 0 bits 0?, Schmitt-trigger input, 100-uA active pullup, open-drain output(2)", 48 P0.5 (io) "General-purpose I/O port 0 bits 0?, Schmitt-trigger input, 100-uA active pullup, open-drain output(2)", 49 P0.6 (io) "General-purpose I/O port 0 bits 0?, Schmitt-trigger input, 100-uA active pullup, open-drain output(2)", 50 P0.7 (io) "General-purpose I/O port 0 bits 0?, Schmitt-trigger input, 100-uA active pullup, open-drain output(2)", 51 P3.7 (io) "General-purpose I/O port 3 bits 4?, Schmitt-trigger input, 100-uA active pullup, open-drain output(2)", 52 P3.6 (io) "General-purpose I/O port 3 bits 4?, Schmitt-trigger input, 100-uA active pullup, open-drain output(2)", 53 P3.5 (io) "General-purpose I/O port 0 bits 0?, Schmitt-trigger input, 100-uA active pullup, open-drain output(2)", 54 P3.4 (io) "General-purpose I/O port 0 bits 0?, Schmitt-trigger input, 100-uA active pullup, open-drain output(2)", 55 P3.3 (io) "General-purpose I/O port 3 bit 3, Schmitt-trigger input, 100-uA active pullup, open-drain output may support I\N\T\1\ input, depending on configuration (see Figure 2-5)", 56 P3.2 (io) "General-purpose I/O port 3 bit 2, Schmitt-trigger input, 100-uA active pullup, open-drain output(2); I\N\T\0\ only used internally (see Section 2.9.4)", 57 P3.1/S1/TXD (io) "P3.1: General-purpose I/O port 3 bit 1, Schmitt-trigger input, 100-uA active pullup, open-drain output S1: See Section 2.6.5. TXD: Can be used as a UART interface", 58 P3.0/S0/RXD (io) "P3.0: General-purpose I/O port 3 bit 0, Schmitt-trigger input, 100-uA active pullup, open-drain output S0:See Section 2.6.5 RXD: Can be used as a UART interface"
part B pins: 1 RSV "Reserved (Do not connect these pins.)", 2 NC "No connection", 3 NC "No connection", 4 RSV "Reserved (Do not connect these pins.)", 6 NC "No connection", 7 NC "No connection", 8 S2 (in) "General-purpose input, can be used for VID/PID selection under firmware control. This input has no internal pullup; therefore, it must be driven/pulled either low or high and cannot be left unconnected.", 9 S3 (in) "General-purpose input. This input has no internal pullup; therefore, it must be driven/pulled either low or high and cannot be left unconnected.", 11 SDA (io) "Serial data I2C; open-drain output", 12 SCL (out) "Serial clock I2C;push-pull output", 13 ~{RST} (in) "Controller master reset signal, Schmitt-trigger input, 100-uA active pullup", 14 TEST0 (in) "Test input0, Schmitt-trigger input, 100-uA active pullup", 15 TEST1 (in) "Test input1, Schmitt-trigger input, 100-uA active pullup", 16 SUSP (out) "Suspend status signal: suspended (HIGH); unsuspended (LOW)", 17 PUR (hiz) "Pullup resistor connection pin (3-state) push-pull CMOS output (+/-4 mA)", 18 DP (io) "Differential data-plus USB", 19 DM (io) "Differential data-minus USB", 20 TEST2 "Test input2, Schmitt-trigger input, 100-uA active pullup. This pin is reserved for testing purposes and should be left unconnected.", 38 ~{VREN} (in) "Voltage regulator enable: enable active-LOW; disable active-HIGH", 60 X2 "12-MHz crystal output", 61 X1 "12-MHz crystal input", 63 NC "No connection", 64 NC "No connection"
part C pins: 5 GND (power) "Power supply ground", 10 VCC (power) "Power supply input, 3.3 V typical", 21 GND (power) "Power supply ground", 24 GND (power) "Power supply ground", 37 1.8VDD (power) "1.8 V. When V\R\E\N\ is high, 1.8 V must be applied externally to provide current for the core during suspend.", 39 VCC (power) "Power supply input, 3.3 V typical", 42 GND (power) "Power supply ground", 59 GND (power) "Power supply ground", 62 VCC (power) "Power supply input, 3.3 V typical"

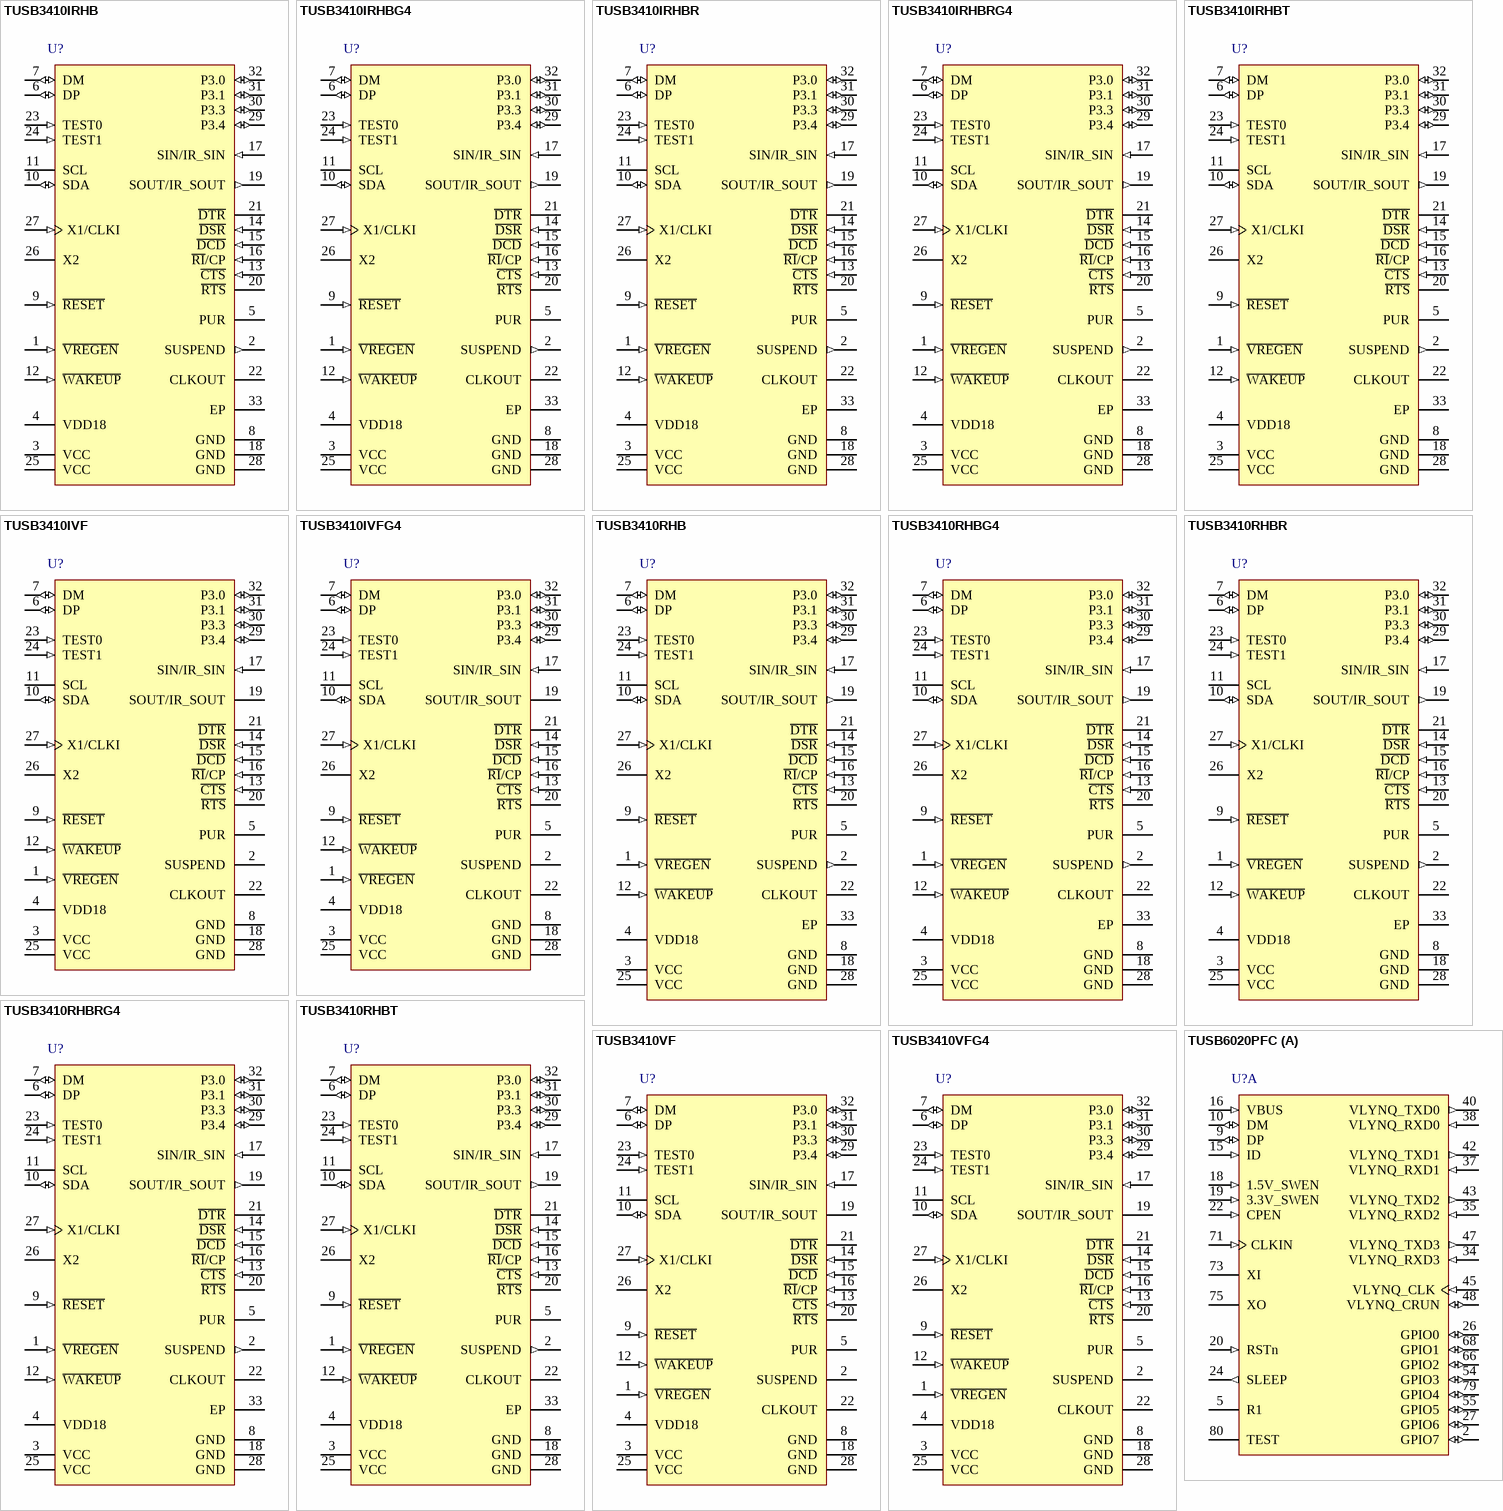
[diagram p4: symbols TUSB3410IRHB to TUSB6020PFC]

## TUSB3410IRHB
designator U?
RS232 / IrDA Serial-to-USB Converter, 2 MIPs, 16 KBytes, 8052, 3.3V, -40 to 85 degC, 32-Pin QFN (RHB), Green (RoHS & no Sb/Br); PartNumber: TUSB3410IRHB; Manufacturer: Texas Instruments; SubFamily: USB Peripheral; MCU Speed(Max)(MIPs): 2; Number of Endpoints IN: 3; Supply Voltage(s)(V): 3.3; Application Interface: Enhanced, UART; GPIO Pins(#): 4; USB Speed: Full; Integrated MCU Architecture: 8052; Bulk Transfer: True; MCU Code Space(KBytes): 16; DatasheetVersion: SLLS519H; PackageVersion: revD, Jun-2011; PackageReference: RHB32-3450X3450TP; PackageDescription: 32-Pin Plastic Quad Flat No-Lead, 5 x 5 mm Body, 0.5 mm Pitch, 3.45 x 3.45 mm Exposed Pad; Mounting Technology: Surface Mount; Eco-Plan: Green (RoHS & no Sb/Br); Number of Endpoints OUT: 3; Control Transfer: True; DMA: True; Interrupt Transfer: True; Remote Wakeup: True; Code_JEDEC: MO-220; ComponentLink1Description: Datasheet; ComponentLink1URL: http://www.ti.com/general/docs/lit/getliterature.tsp?genericPartNumber=TUSB3410&fileType=pdf; ComponentLink2Description: Package Specification; ComponentLink2URL: http://www.ti.com/litv/pdf/mpqf130c
footprint RHB32-3450X3450TP (QFN, 32-Leads, Body 5x5mm, Pitch 0.5mm, Thermal Pad 3.45x3.45mm, TI Recommended)
pins: 1 ~{VREGEN} (in) "This active-low terminal is used to enable the 3.3-V to 1.8-V voltage regulator.", 2 SUSPEND (out) "Suspend indicator terminal (see Note 3). When this terminal is asserted high, the device is in suspend mode.", 3 VCC (power) "3.3V", 4 VDD18 (power) "1.8-V supply. An internal voltage regulator generates this supply voltage when terminal V\R\E\G\E\N\ is low. When V\R\E\G\E\N\ is high, 1.8 V must be supplied externally.", 5 PUR (hiz) "Pull-up resistor connection (see Note 2)", 6 DP (io) "Upstream USB port differential data plus", 7 DM (io) "Upstream USB port differential data minus", 8 GND (power) "Digital ground", 9 ~{RESET} (in) "Device master reset input (see Note 4)", 10 SDA (io) "Master I2C controller: data signal (see Notes 1 and 5)", 11 SCL (hiz) "Master I2C controller: clock signal (see Note 1)", 12 ~{WAKEUP} (in) "Remote wake-up request terminal. When low, wakes up system (see Note 5)", 13 ~{CTS} (in) "UART: Clear to send (see Note 4)", 14 ~{DSR} (in) "UART: Data set ready (see Note 4)", 15 ~{DCD} (in) "UART: Data carrier detect (see Note 4)", 16 ~{RI}/CP (in) "UART: Ring indicator (see Note 4)", 17 SIN/IR_SIN (in) "UART: Serial input data / IR Serial data input (see Note 6)", 18 GND (power) "Digital ground", 19 SOUT/IR_SOUT (out) "UART: Serial output data / IR Serial data output (see Note 7)", 20 ~{RTS} (hiz) "UART: Request to send (see Note 1)", 21 ~{DTR} (hiz) "UART: Data terminal ready (see Note 1)", 22 CLKOUT (hiz) "Clock output (controlled by bits 2 (CLKOUTEN) and 3(CLKSLCT) in the MODECNFG register (see Section 5.5 and Note 1)", 23 TEST0 (in) "Test input (for factory test only) (see Note 5). This terminal must be tied to VCC through a 10-k ohm resistor.", 24 TEST1 (in) "Test input (for factory test only) (see Note 5). This terminal must be tied to VCC through a 10-k ohm resistor.", 25 VCC (power) "3.3V", 26 X2 "12-MHz crystal output", 27 X1/CLKI (in) "12-MHz crystal input or clock input", 28 GND (power) "Digital ground", 29 P3.4 (io) "General-purpose I/O 4 (port 3, terminal 4) (see Notes 3, 5, and 8)", 30 P3.3 (io) "General-purpose I/O 3 (port 3, terminal 3) (see Notes 3, 5, and 8)", 31 P3.1 (io) "General-purpose I/O 1 (port 3, terminal 1) (see Notes 3, 5, and 8)", 32 P3.0 (io) "General-purpose I/O 0 (port 3, terminal 0) (see Notes 3, 5, and 8)", 33 EP "Exposed Thermal Pad"